# Altium footprint library TFLGA-16_3.3MMX3.1MM.PcbLib: 1 footprints
Each footprint in its own frame and in the unit in brackets; x right, y up, seen from the top. Pads: shape width x height; smd on the part's side, far side on the other; paste and mask are expansions set on the pad; w line width, h text height; cw(c..) or ccw(c..) is an arc to the next point about the centre after c.
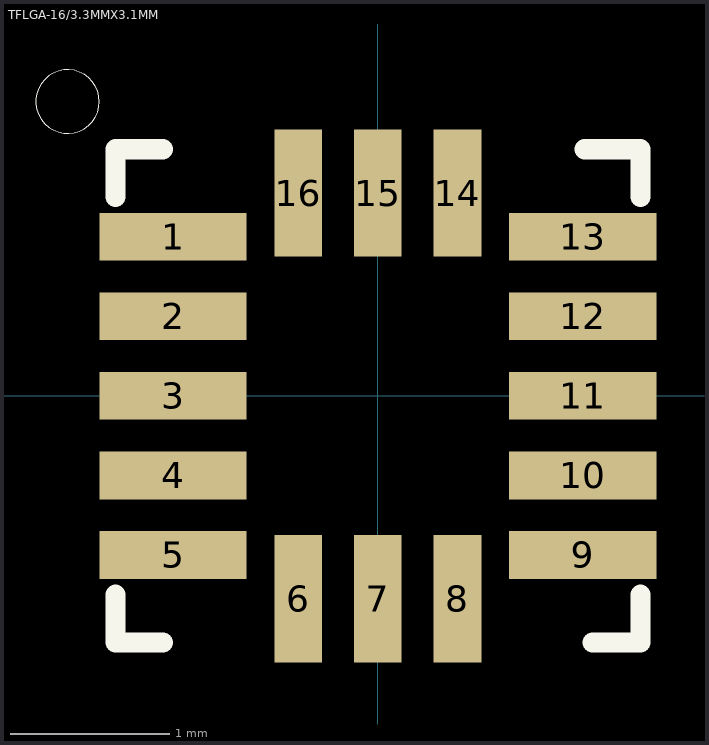
[diagram p0: the footprint, top view; thin cyan lines are the x and y axes]

## TFLGA-16/3.3MMX3.1MM [mm]
pads (16):
  rect 0.925x0.3 smd paste-25.4 mask-25.4: 1(-1.288,1) 2(-1.288,0.5) 3(-1.288,0) 4(-1.288,-0.5) 5(-1.288,-1) 9(1.288,-1) 10(1.288,-0.5) 11(1.288,0) 12(1.288,0.5) 13(1.288,1)
  rect 0.3x0.8 smd paste-25.4 mask-25.4: 6(-0.5,-1.275) 7(0,-1.275) 8(0.5,-1.275) 14(0.5,1.275) 15(0,1.275) 16(-0.5,1.275)
Top Overlay:
  circle w0: c-1.95,1.85 r0.2
  lines w0.127: -1.65,-1.25 -1.65,-1.55 -1.35,-1.55 ; -1.65,1.25 -1.65,1.55 -1.35,1.55 ; 1.3,1.55 1.65,1.55 1.65,1.25 ; 1.35,-1.55 1.65,-1.55 1.65,-1.25
Top Paste:
  region: -1.75,0.85 -0.825,0.85 -0.825,1.15 -1.75,1.15
  region: -1.75,0.35 -0.825,0.35 -0.825,0.65 -1.75,0.65
  region: -1.75,-0.15 -0.825,-0.15 -0.825,0.15 -1.75,0.15
  region: -1.75,-0.65 -0.825,-0.65 -0.825,-0.35 -1.75,-0.35
  region: -1.75,-1.15 -0.825,-1.15 -0.825,-0.85 -1.75,-0.85
  region: -0.35,-1.675 -0.35,-0.875 -0.65,-0.875 -0.65,-1.675
  region: 0.15,-1.675 0.15,-0.875 -0.15,-0.875 -0.15,-1.675
  region: 0.65,-1.675 0.65,-0.875 0.35,-0.875 0.35,-1.675
  region: 0.825,-1.15 1.75,-1.15 1.75,-0.85 0.825,-0.85
  region: 0.825,-0.65 1.75,-0.65 1.75,-0.35 0.825,-0.35
  region: 0.825,-0.15 1.75,-0.15 1.75,0.15 0.825,0.15
  region: 0.825,0.35 1.75,0.35 1.75,0.65 0.825,0.65
  region: 0.825,0.85 1.75,0.85 1.75,1.15 0.825,1.15
  region: 0.65,0.875 0.65,1.675 0.35,1.675 0.35,0.875
  region: 0.15,0.875 0.15,1.675 -0.15,1.675 -0.15,0.875
  region: -0.35,0.875 -0.35,1.675 -0.65,1.675 -0.65,0.875
Top Solder:
  region: -1.85,0.75 -0.725,0.75 -0.725,1.25 -1.85,1.25
  region: -1.85,0.25 -0.725,0.25 -0.725,0.75 -1.85,0.75
  region: -1.85,-0.25 -0.725,-0.25 -0.725,0.25 -1.85,0.25
  region: -1.85,-0.75 -0.725,-0.75 -0.725,-0.25 -1.85,-0.25
  region: -1.85,-1.25 -0.725,-1.25 -0.725,-0.75 -1.85,-0.75
  region: -0.25,-1.775 -0.25,-0.775 -0.75,-0.775 -0.75,-1.775
  region: 0.25,-1.775 0.25,-0.775 -0.25,-0.775 -0.25,-1.775
  region: 0.75,-1.775 0.75,-0.775 0.25,-0.775 0.25,-1.775
  region: 0.725,-1.25 1.85,-1.25 1.85,-0.75 0.725,-0.75
  region: 0.725,-0.75 1.85,-0.75 1.85,-0.25 0.725,-0.25
  region: 0.725,-0.25 1.85,-0.25 1.85,0.25 0.725,0.25
  region: 0.725,0.25 1.85,0.25 1.85,0.75 0.725,0.75
  region: 0.725,0.75 1.85,0.75 1.85,1.25 0.725,1.25
  region: 0.75,0.775 0.75,1.775 0.25,1.775 0.25,0.775
  region: 0.25,0.775 0.25,1.775 -0.25,1.775 -0.25,0.775
  region: -0.25,0.775 -0.25,1.775 -0.75,1.775 -0.75,0.775